# EAGLE library part 75867-104LF (library FCI-tkr)
HEADER, RIGHT ANGLE-20POS
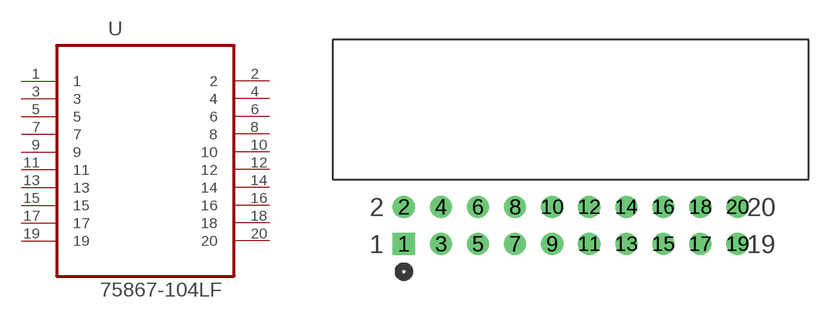
[diagram p41: symbol with the pads of FCI_75867-104LF; footprint FCI_75867-104LF]

Designator prefix U

## 75867-104LF (MPN: 75867-104LF; OC_FARNELL: 1103958; OC_NEWARK: 93K5084; PACKAGE: CONN-20POS; SUPPLIER: FCI)  [FCI_75867-104LF]
1  1  pas
2  2  pas
3  3  pas
4  4  pas
5  5  pas
6  6  pas
7  7  pas
8  8  pas
9  9  pas
10  10  pas
11  11  pas
12  12  pas
13  13  pas
14  14  pas
15  15  pas
16  16  pas
17  17  pas
18  18  pas
19  19  pas
20  20  pas

## Footprint FCI_75867-104LF (pad centres in mm)
drill 1.016 square: 1 -22.86,-2.54
drill 1.016: 2 -22.86,0; 3 -20.32,-2.54; 4 -20.32,0; 5 -17.78,-2.54; 6 -17.78,0; 7 -15.24,-2.54; 8 -15.24,0; 9 -12.7,-2.54; 10 -12.7,0; 11 -10.16,-2.54; 12 -10.16,0; 13 -7.62,-2.54; 14 -7.62,0; 15 -5.08,-2.54; 16 -5.08,0; 17 -2.54,-2.54; 18 -2.54,0; 19 0,-2.54; 20 0,0